# EAGLE library part A5W-K-BIS (library clonos)
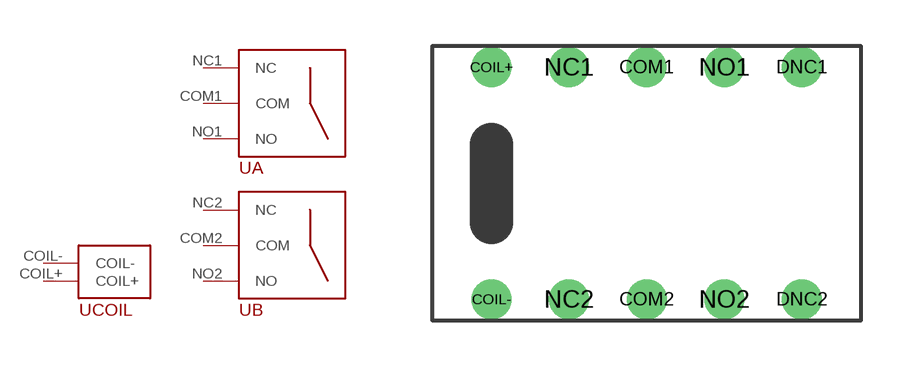
[diagram p2: symbol with the pads of A5W-K; footprint A5W-K]

Designator prefix -; gates COIL=A5W-K-COIL A=A5W-K-GATE B=A5W-K-GATE

## A5W-K-BIS  [A5W-K]
COIL+  COIL:COIL+
COIL-  COIL:COIL-
COM1  A:COM
COM2  B:COM
NC1  A:NC
NC2  B:NC
NO1  A:NO
NO2  B:NO

## Footprint A5W-K (pad centres in mm)
drill 0.8: COIL+ 0,7.62; COIL- 0.002,0.021; COM1 5.08,7.62; COM2 5.082,0.021; DNC1 10.16,7.62; DNC2 10.162,0.021; NC1 2.54,7.62; NC2 2.542,0.021; NO1 7.62,7.62; NO2 7.622,0.021